# EAGLE library part ATSAMD5X/E5XP (library borkedlabs-micros)
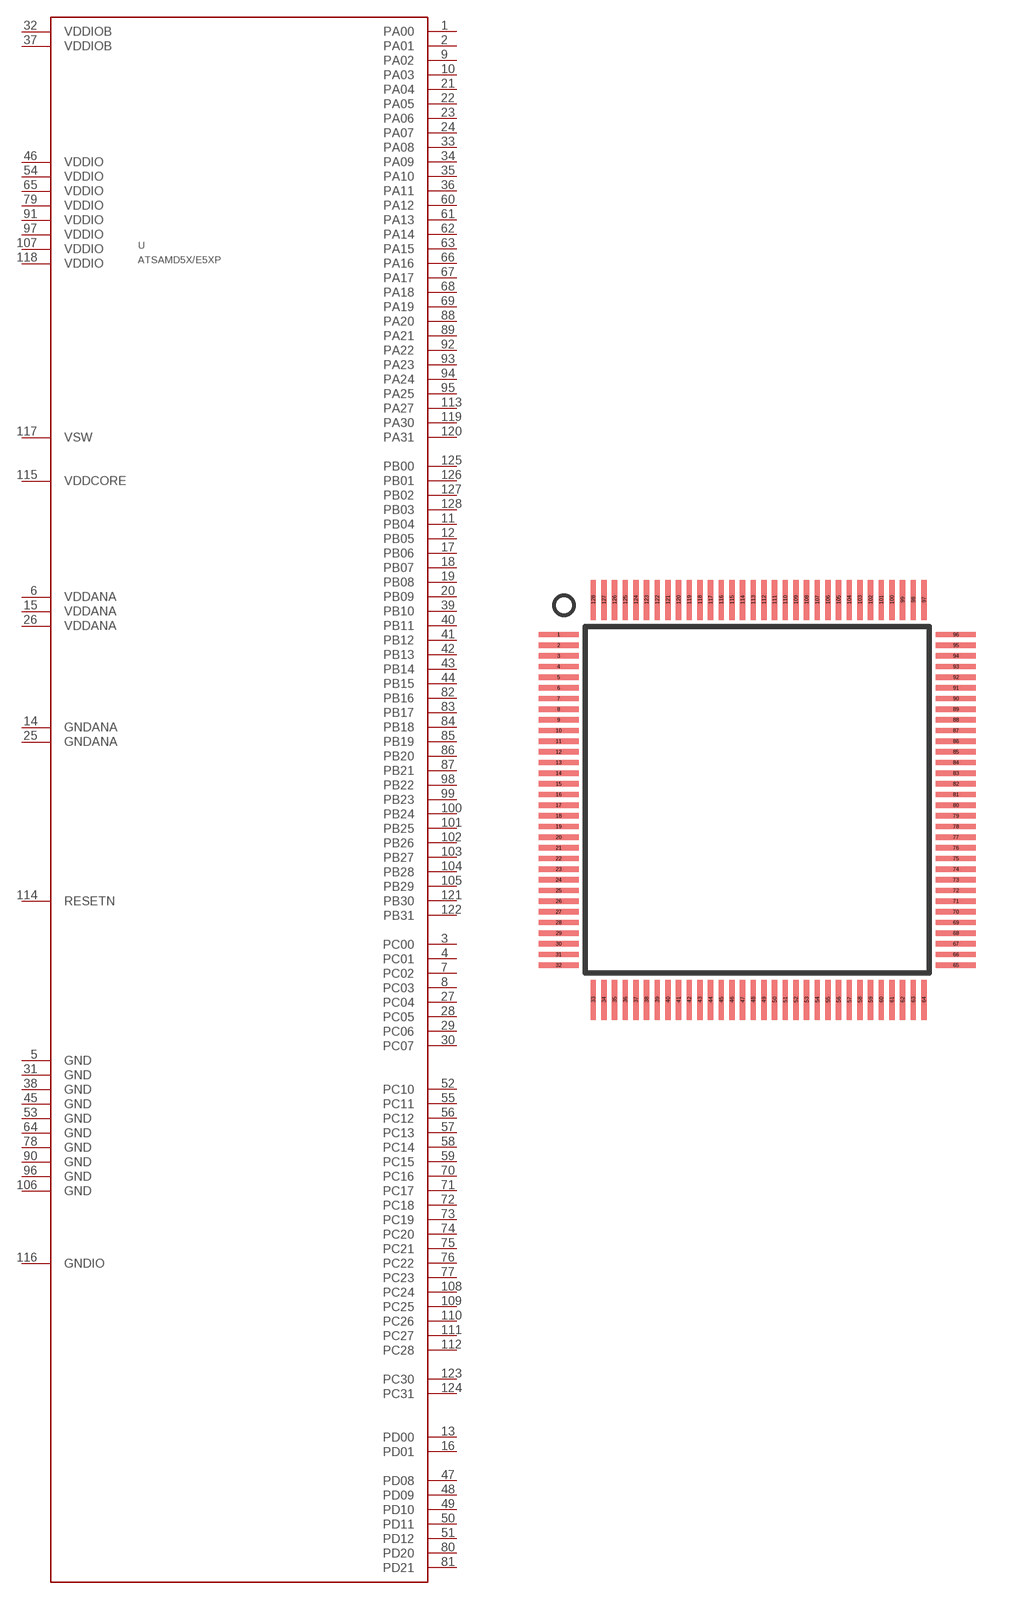
[diagram p13: symbol with the pads of TQFP128-14X14; footprint TQFP128-14X14]

Designator prefix U

## ATSAMD5X/E5XPA (MPN: ATSAMD5X/E5XPA; PACKAGE: TQFP128)  [TQFP128-14X14]
1  PA00
2  PA01
3  PC00
4  PC01
5  GND
6  VDDANA
7  PC02
8  PC03
9  PA02
10  PA03
11  PB04
12  PB05
13  PD00
14  GNDANA
15  VDDANA
16  PD01
17  PB06
18  PB07
19  PB08
20  PB09
21  PA04
22  PA05
23  PA06
24  PA07
25  GNDANA
26  VDDANA
27  PC04
28  PC05
29  PC06
30  PC07
31  GND
32  VDDIOB
33  PA08
34  PA09
35  PA10
36  PA11
37  VDDIOB
38  GND
39  PB10
40  PB11
41  PB12
42  PB13
43  PB14
44  PB15
45  GND
46  VDDIO
47  PD08
48  PD09
49  PD10
50  PD11
51  PD12
52  PC10
53  GND
54  VDDIO
55  PC11
56  PC12
57  PC13
58  PC14
59  PC15
60  PA12
61  PA13
62  PA14
63  PA15
64  GND
65  VDDIO
66  PA16
67  PA17
68  PA18
69  PA19
70  PC16
71  PC17
72  PC18
73  PC19
74  PC20
75  PC21
76  PC22
77  PC23
78  GND
79  VDDIO
80  PD20
81  PD21
82  PB16
83  PB17
84  PB18
85  PB19
86  PB20
87  PB21
88  PA20
89  PA21
90  GND
91  VDDIO
92  PA22
93  PA23
94  PA24
95  PA25
96  GND
97  VDDIO
98  PB22
99  PB23
100  PB24
101  PB25
102  PB26
103  PB27
104  PB28
105  PB29
106  GND
107  VDDIO
108  PC24
109  PC25
110  PC26
111  PC27
112  PC28
113  PA27
114  RESETN
115  VDDCORE
116  GNDIO
117  VSW
118  VDDIO
119  PA30
120  PA31
121  PB30
122  PB31
123  PC30
124  PC31
125  PB00
126  PB01
127  PB02
128  PB03

## Footprint TQFP128-14X14 (pad centres in mm)
smd 1.5 x 0.2: 1 -7.5,6.2; 2 -7.5,5.8; 3 -7.5,5.4; 4 -7.5,5; 5 -7.5,4.6; 6 -7.5,4.2; 7 -7.5,3.8; 8 -7.5,3.4; 9 -7.5,3; 10 -7.5,2.6; 11 -7.5,2.2; 12 -7.5,1.8; 13 -7.5,1.4; 14 -7.5,1; 15 -7.5,0.6; 16 -7.5,0.2; 17 -7.5,-0.2; 18 -7.5,-0.6; 19 -7.5,-1; 20 -7.5,-1.4; 21 -7.5,-1.8; 22 -7.5,-2.2; 23 -7.5,-2.6; 24 -7.5,-3; 25 -7.5,-3.4; 26 -7.5,-3.8; 27 -7.5,-4.2; 28 -7.5,-4.6; 29 -7.5,-5; 30 -7.5,-5.4; 31 -7.5,-5.8; 32 -7.5,-6.2; 65 7.4,-6.2; 66 7.4,-5.8; 67 7.4,-5.4; 68 7.4,-5; 69 7.4,-4.6; 70 7.4,-4.2; 71 7.4,-3.8; 72 7.4,-3.4; 73 7.4,-3; 74 7.4,-2.6; 75 7.4,-2.2; 76 7.4,-1.8; 77 7.4,-1.4; 78 7.4,-1; 79 7.4,-0.6; 80 7.4,-0.2; 81 7.4,0.2; 82 7.4,0.6; 83 7.4,1; 84 7.4,1.4; 85 7.4,1.8; 86 7.4,2.2; 87 7.4,2.6; 88 7.4,3; 89 7.4,3.4; 90 7.4,3.8; 91 7.4,4.2; 92 7.4,4.6; 93 7.4,5; 94 7.4,5.4; 95 7.4,5.8; 96 7.4,6.2
smd 0.2 x 1.5: 33 -6.2,-7.5; 34 -5.8,-7.5; 35 -5.4,-7.5; 36 -5,-7.5; 37 -4.6,-7.5; 38 -4.2,-7.5; 39 -3.8,-7.5; 40 -3.4,-7.5; 41 -3,-7.5; 42 -2.6,-7.5; 43 -2.2,-7.5; 44 -1.8,-7.5; 45 -1.4,-7.5; 46 -1,-7.5; 47 -0.6,-7.5; 48 -0.2,-7.5; 49 0.2,-7.5; 50 0.6,-7.5; 51 1,-7.5; 52 1.4,-7.5; 53 1.8,-7.5; 54 2.2,-7.5; 55 2.6,-7.5; 56 3,-7.5; 57 3.4,-7.5; 58 3.8,-7.5; 59 4.2,-7.5; 60 4.6,-7.5; 61 5,-7.5; 62 5.4,-7.5; 63 5.8,-7.5; 64 6.2,-7.5; 97 6.2,7.5; 98 5.8,7.5; 99 5.4,7.5; 100 5,7.5; 101 4.6,7.5; 102 4.2,7.5; 103 3.8,7.5; 104 3.4,7.5; 105 3,7.5; 106 2.6,7.5; 107 2.2,7.5; 108 1.8,7.5; 109 1.4,7.5; 110 1,7.5; 111 0.6,7.5; 112 0.2,7.5; 113 -0.2,7.5; 114 -0.6,7.5; 115 -1,7.5; 116 -1.4,7.5; 117 -1.8,7.5; 118 -2.2,7.5; 119 -2.6,7.5; 120 -3,7.5; 121 -3.4,7.5; 122 -3.8,7.5; 123 -4.2,7.5; 124 -4.6,7.5; 125 -5,7.5; 126 -5.4,7.5; 127 -5.8,7.5; 128 -6.2,7.5